# Altium schematic symbol library 0402 20pF 50V.Schlib: 1 symbol
Pins are listed as number, name and electrical type; pins without a type are passive.

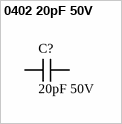
[diagram p0: symbol 0402 20pF 50V]

## 0402 20pF 50V
designator C?, comment value 20pF 50V  (hidden comment: Capacitor)
C0G 20pF ±5% 50V 0402 Multilayer Ceramic Capacitors MLCC - SMD/SMT ROHS; LCSC Part #: C1554
footprint CAP 0402_1005 RF (Chip Capacitor, 2-Leads, Body 1.02x0.51mm, IPC High Density)
pins: 1, 2